# Altium footprint library WE-OLLT.PcbLib: 21 footprints (part 2 of 2)
Each footprint in its own frame and in the unit in brackets; x right, y up, seen from the top. Pads: shape width x height; smd on the part's side, far side on the other; paste and mask are expansions set on the pad; w line width, h text height; cw(c..) or ccw(c..) is an arc to the next point about the centre after c.
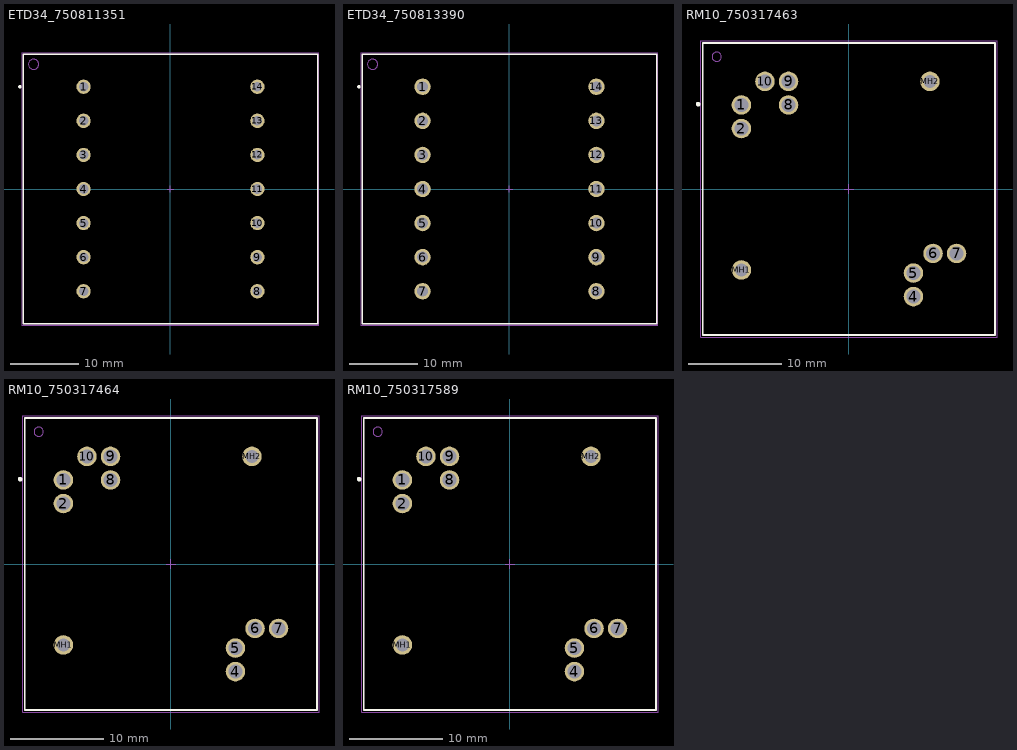
[diagram p1: the footprints below, top view; thin cyan lines are the x and y axes]

## ETD34_750811351 [mm] "Offline Flyback Transformer, THT, body 43.18 x 39.60 mm"
height 30.48
pads (14):
  round 2.1 hole 1.4: 1(-12.75,15) 2(-12.75,10) 3(-12.75,5) 4(-12.75,0) 5(-12.75,-5) 6(-12.75,-10) 7(-12.75,-15) 8(12.75,-15) 9(12.75,-10) 10(12.75,-5) 11(12.75,0) 12(12.75,5) 13(12.75,10) 14(12.75,15)
Top Overlay:
  circle w0.25: c-22.1,15 r0.125
  lines w0.2: -21.59,-19.8 21.59,-19.8 21.59,19.8 -21.59,19.8 -21.59,-19.8
Top Component Outline:
  circle w0.1: c-20.09,18.3 r0.75
  lines w0.1: -21.59,-19.8 21.59,-19.8 21.59,19.8 -21.59,19.8 -21.59,-19.8
Top Courtyard:
  lines w0.05: -21.79,-20 21.79,-20 21.79,20 -21.79,20 -21.79,-20
Top Component Center:
  lines w0.05: -0.5,0 0.5,0 ; 0,-0.5 0,0.5
Top Designator (Mech19):
  text ".Designator" at -7.498,-0.5 h1.5
3D body "070-5455 (rev1).STEP": height 30.49, standoff -4.17, extent -21.59,-19.8 21.59,19.8

## ETD34_750813390 [mm] "Offline Flyback Transformer, THT, body 43.18 x 39.60 mm"
height 30.48
pads (14):
  round 2.4 hole 1.6: 1(-12.75,15) 2(-12.75,10) 3(-12.75,5) 4(-12.75,0) 5(-12.75,-5) 6(-12.75,-10) 7(-12.75,-15) 8(12.75,-15) 9(12.75,-10) 10(12.75,-5) 11(12.75,0) 12(12.75,5) 13(12.75,10) 14(12.75,15)
Top Overlay:
  circle w0.25: c-22.1,15 r0.125
  lines w0.2: -21.59,-19.8 21.59,-19.8 21.59,19.8 -21.59,19.8 -21.59,-19.8
Top Component Outline:
  circle w0.1: c-20.09,18.3 r0.75
  lines w0.1: -21.59,-19.8 21.59,-19.8 21.59,19.8 -21.59,19.8 -21.59,-19.8
Top Courtyard:
  lines w0.05: -21.79,-20 21.79,-20 21.79,20 -21.79,20 -21.79,-20
Top Component Center:
  lines w0.05: -0.5,0 0.5,0 ; 0,-0.5 0,0.5
Top Designator (Mech19):
  text ".Designator" at -7.498,-0.5 h1.5
3D body "070-5455 (rev1).STEP": height 30.49, standoff -4.17, extent -21.59,-19.8 21.59,19.8

## RM10_750317463 [mm] "Offline Flyback Transformer, THT, body 31.50 x 31.50 mm"
height 20.5
pads (11):
  round 2.1 hole 1.5: 1(-11.595,9.055) 2(-11.595,6.515) 4(6.945,-11.595) 5(6.945,-9.055) 6(9.055,-6.945) 7(11.595,-6.945) 8(-6.515,9.055) 9(-6.515,11.595) 10(-9.055,11.595)
  round 2.1 hole 1.4: MH1(-11.595,-8.725) MH2(8.725,11.595)
Top Overlay:
  circle w0.25: c-16.25,9.15 r0.125
  lines w0.2: -15.75,-15.75 -15.75,15.75 15.75,15.75 15.75,-15.75 -15.75,-15.75
Top Component Outline:
  circle w0.1: c-14.25,14.25 r0.5
  lines w0.1: -15.75,-15.75 -15.75,15.75 15.75,15.75 15.75,-15.75 -15.75,-15.75
Top Courtyard:
  lines w0.05: -15.95,-15.95 -15.95,15.95 15.95,15.95 15.95,-15.95 -15.95,-15.95
Top Component Center:
  lines w0.05: -0.5,0 0.5,0 ; 0,-0.5 0,0.5
Top Designator (Mech19):
  text ".Designator" at -7.498,-0.5 h1.5
3D body "Download_STP_070-6920_MP3 (rev1).STEP": height 19.27, standoff -2.7, extent -13.855,-13.339 13.342,13.858

## RM10_750317464 [mm] "Offline Flyback Transformer, THT, body 31.50 x 31.50 mm"
height 20.5
pads (11):
  round 2.1 hole 1.5: 1(-11.595,9.055) 2(-11.595,6.515) 4(6.945,-11.595) 5(6.945,-9.055) 6(9.055,-6.945) 7(11.595,-6.945) 8(-6.515,9.055) 9(-6.515,11.595) 10(-9.055,11.595)
  round 2.1 hole 1.4: MH1(-11.595,-8.725) MH2(8.725,11.595)
Top Overlay:
  circle w0.25: c-16.25,9.15 r0.125
  lines w0.2: -15.75,-15.75 -15.75,15.75 15.75,15.75 15.75,-15.75 -15.75,-15.75
Top Component Outline:
  circle w0.1: c-14.25,14.25 r0.5
  lines w0.1: -15.75,-15.75 -15.75,15.75 15.75,15.75 15.75,-15.75 -15.75,-15.75
Top Courtyard:
  lines w0.05: -15.95,-15.95 -15.95,15.95 15.95,15.95 15.95,-15.95 -15.95,-15.95
Top Component Center:
  lines w0.05: -0.5,0 0.5,0 ; 0,-0.5 0,0.5
Top Designator (Mech19):
  text ".Designator" at -7.498,-0.5 h1.5
3D body "Download_STP_070-6920_MP3 (rev1).STEP": height 19.25, standoff -2.72, extent -13.855,-13.339 13.342,13.858

## RM10_750317589 [mm] "Offline Flyback Transformer, THT, body 31.50 x 31.50 mm"
height 20.5
pads (11):
  round 2.1 hole 1.5: 1(-11.595,9.055) 2(-11.595,6.515) 4(6.945,-11.595) 5(6.945,-9.055) 6(9.055,-6.945) 7(11.595,-6.945) 8(-6.515,9.055) 9(-6.515,11.595) 10(-9.055,11.595)
  round 2.1 hole 1.4: MH1(-11.595,-8.725) MH2(8.725,11.595)
Top Overlay:
  circle w0.25: c-16.25,9.15 r0.125
  lines w0.2: -15.75,-15.75 15.75,-15.75 15.75,15.75 -15.75,15.75 -15.75,-15.75
Top Component Outline:
  circle w0.1: c-14.25,14.25 r0.5
  lines w0.1: -15.75,-15.75 15.75,-15.75 15.75,15.75 -15.75,15.75 -15.75,-15.75
Top Courtyard:
  lines w0.05: -15.95,-15.95 15.95,-15.95 15.95,15.95 -15.95,15.95 -15.95,-15.95
Top Component Center:
  lines w0.05: -0.5,0 0.5,0 ; 0,-0.5 0,0.5
Top Designator (Mech19):
  text ".Designator" at -7.498,-0.5 h1.5
3D body "Download_STP_070-6920_MP3 (rev1).STEP": height 19.25, standoff -2.72, extent -13.855,-13.339 13.342,13.858